# Altium schematic symbol library IRLML2803TRPBF.Schlib: 1 symbol
Pins are listed as number, name and electrical type; pins without a type are passive.

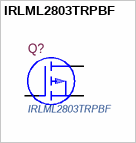
[diagram p0: symbol IRLML2803TRPBF]

## IRLML2803TRPBF
designator Q?
Trans MOSFET N-CH 30V 1.2A 3-Pin SOT-23 T/R; Manufacturer 1: International Rectifier; Gate to Source Voltage (Vgs): 20V; Power Dissipation: 540mW; Turn-On Delay Time: 3.9ns; Turn-Off Delay Time: 9ns; Rise Time: 4ns; Rds On Max: 250mR; Input Capacitance: 85pF; Fall Time: 1.7ns; Number of Elements: 1; Nominal Vgs: 1V; Drain to Source Resistance: 400mR; Element Configuration: Single; Supplier 1: Digi-Key; Manufacturer Part Number 1: IRLML2803TRPBF; Stock 1: 39860; Pricing 1: 1=0.38000, 10=0.30900, 100=0.21030, 500=0.15770, 1000=0.11828 (USD); RoHS: Yes; Mount: Surface Mount; Case/Package: SOT-23; Number of Pins: 3; Min Operating Temperature: -55°C; Max Operating Temperature: 150°C; Continuous Drain Current (ID): 1.2A; Packaging: Tape and Reel; Drain to Source Voltage (Vdss): 30V; Max Power Dissipation: 540mW; Package Quantity: 1; Dual Supply Voltage: 30V; Drain to Source Breakdown Voltage: 30V; On-State Resistance: 250mR; Min Breakdown Voltage: 30V; Termination: SMD/SMT; Threshold Voltage: 1V; Voltage Rating (DC): 30V; Current Rating: 1.2A; Length: 3.04mm; Height: 1.02mm; Width: 1.4mm; Radiation Hardening: No; REACH SVHC: No SVHC; Lead Free: Lead Free; ComponentLink1URL: https://datasheet.ciiva.com/27092/1563665-27092836.pdf?src-supplier=Jameco; ComponentLink1Description: https://datasheet.ciiva.com/27092/1563665-27092836.pdf?src-supplier=Jameco; ComponentLink2URL: https://datasheet.ciiva.com/29326/162828-da-01-en-irlml-2803tr-29326785.pdf?src-supplier=Conrad; ComponentLink2Description: https://datasheet.ciiva.com/29326/162828-da-01-en-irlml-2803tr-29326785.pdf?src-supplier=Conrad; ComponentLink3URL: https://datasheet.ciiva.com/16371/irlml2803pbf-16371749.pdf?src-supplier=Future+Electronics; ComponentLink3Description: https://datasheet.ciiva.com/16371/irlml2803pbf-16371749.pdf?src-supplier=Future+Electronics; ComponentLink4URL: https://datasheet.ciiva.com/6383/irlml2803pbf-6383355.pdf?src-supplier=Digi-Key; ComponentLink4Description: https://datasheet.ciiva.com/6383/irlml2803pbf-6383355.pdf?src-supplier=Digi-Key; ComponentLink5URL: https://datasheet.ciiva.com/5950/irlml2803pbf-5950573.pdf?src-supplier=Farnell; ComponentLink5Description: https://datasheet.ciiva.com/5950/irlml2803pbf-5950573.pdf?src-supplier=Farnell; ComponentLink6URL: https://datasheet.ciiva.com/6383/irlml2803pbf-6383357.pdf?src-supplier=Digi-Key; ComponentLink6Description: https://datasheet.ciiva.com/6383/irlml2803pbf-6383357.pdf?src-supplier=Digi-Key; ComponentLink7URL: https://datasheet.ciiva.com/6383/irlml2803pbf-6383354.pdf?src-supplier=Digi-Key; ComponentLink7Description: https://datasheet.ciiva.com/6383/irlml2803pbf-6383354.pdf?src-supplier=Digi-Key; Supplier Part Number 1: IRLML2803PBFCT-ND
footprint SOT23-3
pins: 1 G, 2 S, 3 D